# Altium footprint library PCBLIB.PcbLib: 22 footprints (part 1 of 2)
Each footprint in its own frame and in the unit in brackets; x right, y up, seen from the top. Pads: shape width x height; smd on the part's side, far side on the other; paste and mask are expansions set on the pad; w line width, h text height; cw(c..) or ccw(c..) is an arc to the next point about the centre after c.
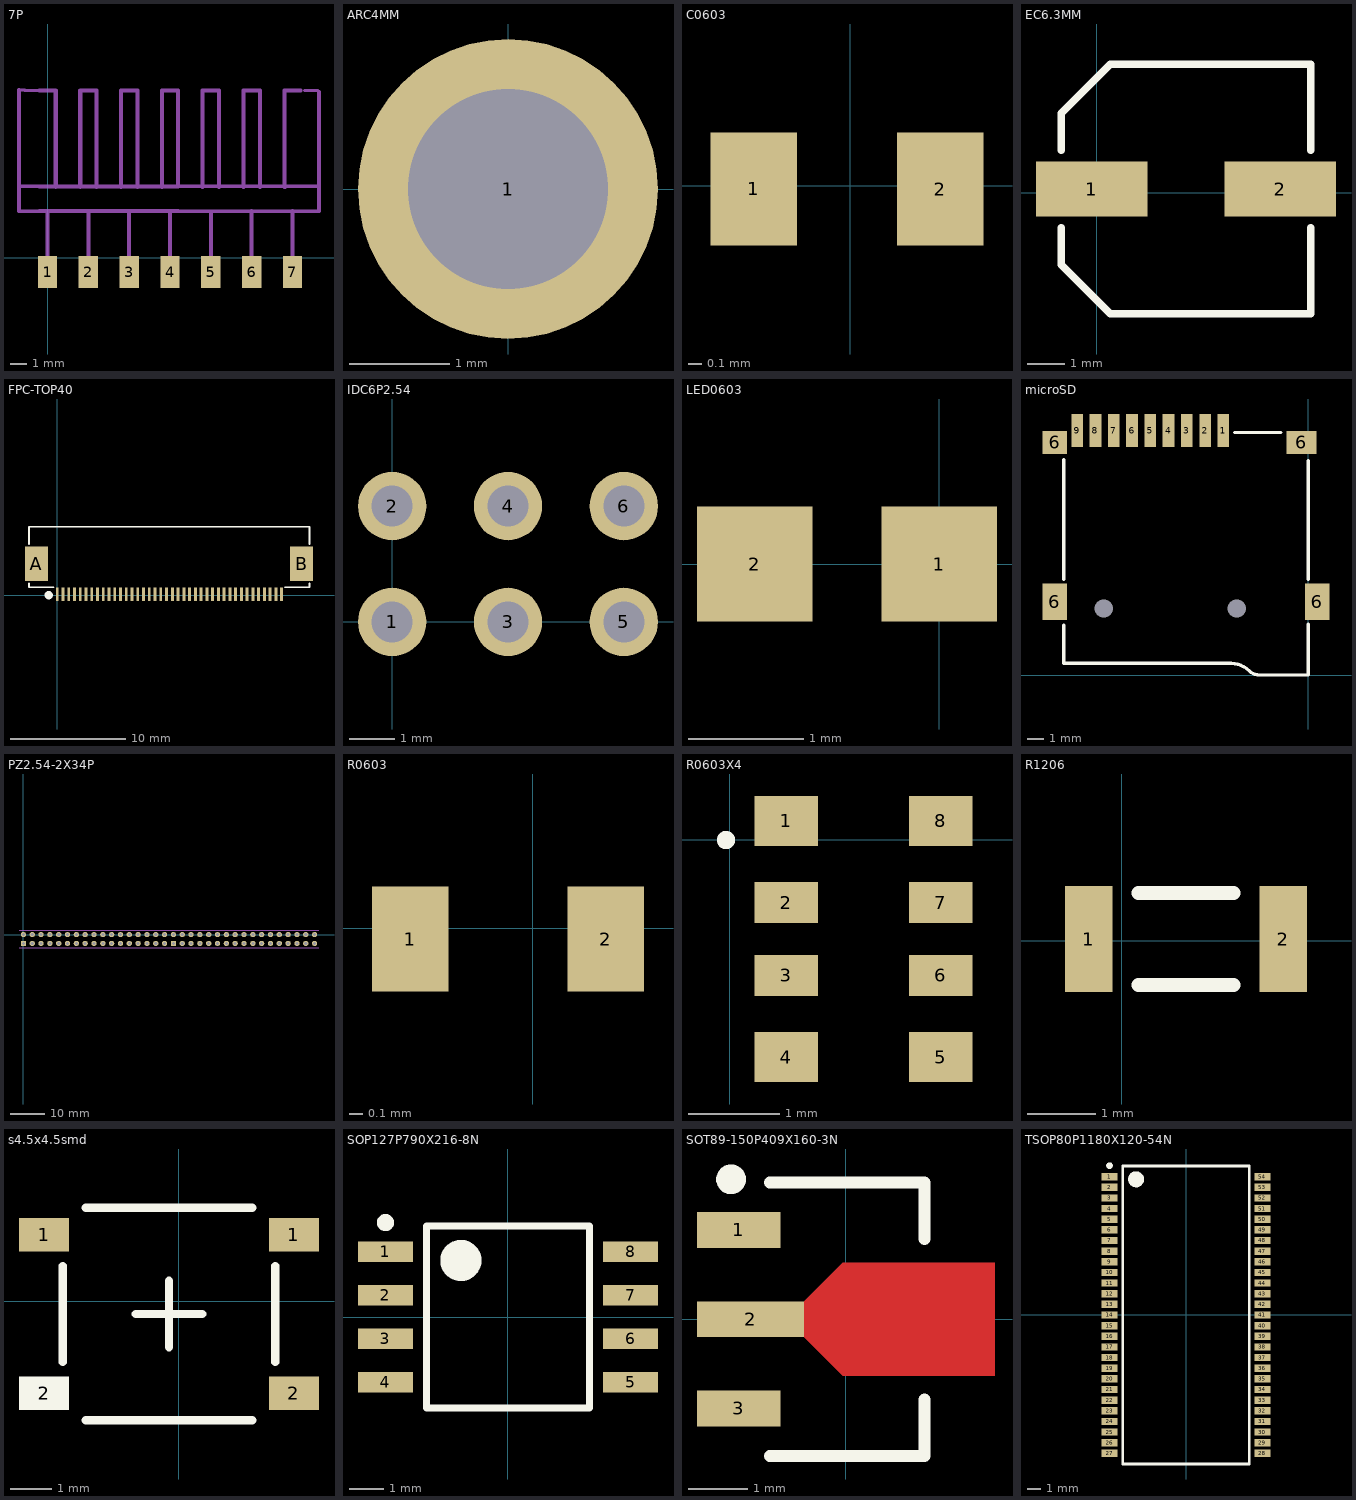
[diagram p0: the footprints below, top view; thin cyan lines are the x and y axes]

## 7P [mm]
pads (7):
  rect 1.2x2 smd: 1(0,-0.889) 2(2.54,-0.889) 3(5.08,-0.889) 4(7.62,-0.889) 5(10.16,-0.889) 6(12.7,-0.889) 7(15.24,-0.889)
Mechanical 1:
  lines w0.102: 8.128,2.9 15.24,2.9 ; 8.128,4.445 14.687,4.445 14.814,4.318 ; 14.986,2.9 15.748,2.9
  lines w0.2: -1.778,2.9 16.891,2.9 ; -1.778,4.445 16.764,4.445 16.891,4.318 ; -1.778,10.445 -1.428,10.445 -1.383,10.4 0,10.4 ; 16.002,10.414 16.795,10.414 16.891,10.318
  lines w0.254: -1.778,2.9 -1.778,4.445 -1.778,10.445 ; -0.508,2.9 8.128,2.9 ; -0.508,4.445 8.128,4.445 8.128,10.4 ; -0.508,10.4 0.508,10.4 0.508,4.4 ; 0,0.148 0,2.794 ; 2.032,4.4 2.032,10.4 ; 2.032,10.414 3.048,10.414 ; 2.54,0 2.54,2.794 ; 3.048,4.4 3.048,10.4 ; 4.572,4.4 4.572,10.4 ; 4.572,10.414 5.588,10.414 ; 5.08,0 5.08,2.9 ; 5.588,4.4 5.588,10.4 ; 7.112,4.4 7.112,10.4 ; 7.112,10.414 8.128,10.414 ; 7.62,0 7.62,2.9 ; 9.652,4.4 9.652,10.4 ; 9.652,10.414 10.668,10.414 ; 10.16,0 10.16,2.794 ; 10.668,4.4 10.668,10.4 ; 12.192,4.4 12.192,10.4 ; 12.192,10.414 13.208,10.414 ; 12.7,0 12.7,2.9 ; 13.208,4.4 13.208,10.4 ; 14.732,4.4 14.732,10.4 ; 14.732,10.414 15.748,10.414 ; 15.24,0 15.24,2.9 ; 16.891,2.9 16.891,4.318 16.891,10.318

## ARC4MM [mm]
pads (1):
  round 3 hole 2: 1(0,0)

## C0603 [mm]
pads (2):
  rect 0.65x0.85 smd: 1(-0.725,-0.025) 2(0.675,-0.025)
3D body: height 0.45, standoff 0, extent -0.826,-0.425 0.774,0.375

## EC6.3MM [mm]
pads (2):
  rect 2.95x1.45 smd: 1(-0.138,0.102) 2(4.862,0.102)
Top Overlay:
  lines w0.2: -0.938,-0.923 -0.938,-1.911 0.35,-3.198 5.662,-3.198 5.662,-0.923 ; -0.938,1.127 -0.938,2.114 0.35,3.402 5.662,3.402 5.662,1.127
3D body: height 5.4, standoff 0, extent -1.238,-3.198 5.962,3.402

## FPC-TOP40 [mm] "长：24.2mm，宽：5.2mm，高：2mm"
pads (42):
  rect 0.25x1.2 smd: 1(0,0.102) 2(0.5,0.102) 3(1,0.102) 4(1.5,0.102) 5(2,0.102) 6(2.5,0.102) 7(3,0.102) 8(3.5,0.102) 9(4,0.102) 10(4.5,0.102) 11(5,0.102) 12(5.5,0.102) 13(6,0.102) 14(6.5,0.102) 15(7,0.102) 16(7.5,0.102) 17(8,0.102) 18(8.5,0.102) 19(9,0.102) 20(9.5,0.102) 21(10,0.102) 22(10.5,0.102) 23(11,0.102) 24(11.5,0.102) 25(12,0.102) 26(12.5,0.102) 27(13,0.102) 28(13.5,0.102) 29(14,0.102) 30(14.5,0.102) 31(15,0.102) 32(15.5,0.102) 33(16,0.102) 34(16.5,0.102) 35(17,0.102) 36(17.5,0.102) 37(18,0.102) 38(18.5,0.102) 39(19,0.102) 40(19.5,0.102)
  rect 2x3 smd: A(-1.818,2.754) B(21.242,2.754)
Top Overlay:
  circle w0.356: c-0.737,0.025 r0.178
  lines w0.127: -2.45,0.731 -2.438,0.719
  lines w0.152: -2.45,0.719 -0.305,0.719 ; -2.45,0.731 -2.45,1.067 ; -2.45,4.445 -2.45,5.969 21.925,5.969 21.925,4.47 ; 19.794,0.711 21.925,0.711 21.925,1.067
3D body: height 2, standoff -0.01, extent -2.312,0.313 21.888,6.313

## IDC6P2.54 [mm]
pads (6):
  round 1.5 hole 0.9: 1(0,0) 2(0,2.54) 3(2.54,0) 4(2.54,2.54) 5(5.08,0) 6(5.08,2.54)

## LED0603 [mm]
pads (2):
  rect 1x1 smd: 1(0,0) 2(-1.6,0)
3D body: height 0.9, standoff 0, extent -1.688,-0.45 0.012,0.45

## microSD [mm] "MicroSD"
pads (15):
  round 0 hole 1.1 unplated: 0(-12.31,4) 0(-4.31,4)
  rect 0.7x2 smd: 1(-5.11,14.714) 2(-6.21,14.714) 3(-7.31,14.714) 4(-8.41,14.714) 5(-9.51,14.714) 6(-10.61,14.714) 7(-11.71,14.714) 8(-12.81,14.714) 9(-13.91,14.714)
  rect 1.5x2.2 smd: 6(-15.26,4.4) 6(0.54,4.4)
  rect 1.5x1.4 smd: 6(-15.26,14)
  rect 1.8x1.4 smd: 6(-0.41,14)
Top Overlay:
  lines w0.2: -14.72,3 -14.72,0.7 -6.22,0.7 -5.734,0.7 -4.633,0.7 cw(c-4.633,-0.823) -3.556,0.254 ccw(c-2.943,0.867) -2.943,0 -2.667,0 -2.5,0 0,0 0,1.814 0,2.691 0,3.072 ; -14.72,5.751 -14.72,6.253 -14.72,8.031 -14.72,12.978 ; -4.439,14.6 -4.066,14.6 -1.653,14.6 ; 0,5.751 0,7.015 0,10.952 0,12.9
3D body: height 1.91, standoff -0.54, extent -15.317,-2.505 0.683,15.245

## PZ2.54-2X34P [mil] "排针，2.54mm间距，2X34P"
pads (68):
  rect 60x60 hole 35: 1(-0.01,-100.01) 35(1699.98,-100.01)
  round 60 hole 35: 2(0,0) 3(99.99,-100.01) 4(100,0) 5(199.99,-100.01) 6(200,0) 7(299.99,-100.01) 8(300,0) 9(399.99,-100.01) 10(400,0) 11(499.99,-100.01) 12(500,0) 13(599.99,-100.01) 14(600,0) 15(699.99,-100.01) 16(700,0) 17(799.99,-100.01) 18(800,0) 19(899.99,-100.01) 20(900,0) 21(999.99,-100.01) 22(1000,0) 23(1099.99,-100.01) 24(1100,0) 25(1199.99,-100.01) 26(1200,0) 27(1299.99,-100.01) 28(1300,0) 29(1399.99,-100.01) 30(1400,0) 31(1499.99,-100.01) 32(1500,0) 33(1599.99,-100.01) 34(1600,0) 36(1699.99,0) 37(1799.98,-100.01) 38(1799.99,0) 39(1899.98,-100.01) 40(1899.99,0) 41(1999.98,-100.01) 42(1999.99,0) 43(2099.98,-100.01) 44(2099.99,0) 45(2199.98,-100.01) 46(2199.99,0) 47(2299.98,-100.01) 48(2299.99,0) 49(2399.98,-100.01) 50(2399.99,0) 51(2499.98,-100.01) 52(2499.99,0) 53(2599.98,-100.01) 54(2599.99,0) 55(2699.98,-100.01) 56(2699.99,0) 57(2799.98,-100.01) 58(2799.99,0) 59(2899.98,-100.01) 60(2899.99,0) 61(2999.98,-100.01) 62(2999.99,0) 63(3099.98,-100.01) 64(3099.99,0) 65(3199.98,-100.01) 66(3199.99,0) 67(3299.98,-100.01) 68(3299.99,0)
Mechanical 1:
  lines w7.87: -50.01,-150.01 1649.99,-150.01 3349.98,-150.01 ; -50,50 1649.99,50 3349.98,50

## R0603 [mm]
pads (2):
  rect 0.55x0.75 smd: 1(-0.878,-0.076) 2(0.522,-0.076)
3D body: height 0.5, standoff 0, extent -0.978,-0.476 0.622,0.324

## R0603X4 [mm]
pads (8):
  rect 0.7x0.55 smd: 1(0.623,0.208) 4(0.623,-2.392) 5(2.323,-2.392) 8(2.323,0.208)
  rect 0.7x0.45 smd: 2(0.623,-0.692) 3(0.623,-1.492) 6(2.323,-1.492) 7(2.323,-0.692)
Top Overlay:
  circle w0.1: c-0.039,-0.004 r0.05
3D body: height 0.53, standoff -0.03, extent 0.673,-2.692 2.273,0.508

## R1206 [mm]
pads (2):
  rect 0.7x1.55 smd: 1(-0.485,0.025) 2(2.365,0.025)
Top Overlay:
  lines w0.2: 0.24,-0.65 1.64,-0.65 ; 0.24,0.7 1.64,0.7
3D body: height 0.85, standoff 0, extent -0.66,-0.775 2.54,0.825

## s4.5x4.5smd [mm]
pads (4):
  rect 1.2x0.8 smd: 1(-3.229,1.595) 1(2.771,1.595) 2(2.771,-2.205)
  rect 1.2x0.8 on Top Overlay: 2(-3.229,-2.205)
Top Overlay:
  lines w0.2: -2.779,-1.455 -2.779,0.845 ; -2.229,-2.855 1.771,-2.855 ; -2.229,2.245 1.771,2.245 ; -1.029,-0.305 -0.229,-0.305 ; -0.229,-1.105 -0.229,-0.305 ; -0.229,0.495 -0.229,-0.305 ; 0.571,-0.305 -0.229,-0.305 ; 2.321,-1.455 2.321,0.845
3D body: height 1.5, standoff 0, extent -3.429,-2.955 2.974,2.345

## SOP127P790X216-8N [mm] "SOP, 8-Leads, Body 5.28x5.28mm, Pitch 1.27mm, IPC Medium Density"
height 2.16
pads (8):
  rect 1.6x0.6 smd: 1(-3.575,1.905) 2(-3.575,0.635) 3(-3.575,-0.635) 4(-3.575,-1.905) 5(3.575,-1.905) 6(3.575,-0.635) 7(3.575,0.635) 8(3.575,1.905)
Top Overlay:
  circle w0.25: c-3.575,2.755 r0.125
  circle w0.6: c-1.375,1.65 r0.3
  lines w0.2: -2.375,-2.65 -2.375,2.65 2.375,2.65 2.375,-2.65 -2.375,-2.65
3D body: height 2.16, standoff 0, extent -3.95,-2.65 3.95,2.65

## SOT89-150P409X160-3N [mm] "SOT89, 3-Leads, Body 4.50x2.50mm, Pitch 1.50mm, Lead Span 4.1mm, IPC Medium Density"
height 1.6
pads (3):
  rect 1.4x0.6 smd: 1(-1.8,1.5) 3(-1.8,-1.5)
  rect 1.8x0.6 smd: 2(-1.6,0)
Top Layer:
  region: -0.7,0.3 -0.05,0.95 2.5,0.95 2.5,-0.95 -0.05,-0.95 -0.7,-0.3
Top Overlay:
  circle w0.25: c-1.927,2.35 r0.125
  lines w0.2: -1.277,-2.3 1.323,-2.3 1.322,-1.35 ; -1.278,2.3 1.322,2.3 1.323,1.35
Top Paste:
  rectangle: 0,-1.016 2.54,1.016
Top Solder:
  rectangle: -0.127,-0.889 2.54,1.016
3D body: height 1.5, standoff 0, extent -2.3,-2.25 1.802,2.25

## TSOP80P1180X120-54N [mm] "TSOP, 54-Leads, Body 22.22x10.16mm, Pitch 0.80mm, IPC Medium Density"
height 1.2
pads (54):
  rect 1.2x0.55 smd: 1(-5.75,10.4) 2(-5.75,9.6) 3(-5.75,8.8) 4(-5.75,8) 5(-5.75,7.2) 6(-5.75,6.4) 7(-5.75,5.6) 8(-5.75,4.8) 9(-5.75,4) 10(-5.75,3.2) 11(-5.75,2.4) 12(-5.75,1.6) 13(-5.75,0.8) 14(-5.75,0) 15(-5.75,-0.8) 16(-5.75,-1.6) 17(-5.75,-2.4) 18(-5.75,-3.2) 19(-5.75,-4) 20(-5.75,-4.8) 21(-5.75,-5.6) 22(-5.75,-6.4) 23(-5.75,-7.2) 24(-5.75,-8) 25(-5.75,-8.8) 26(-5.75,-9.6) 27(-5.75,-10.4) 28(5.75,-10.4) 29(5.75,-9.6) 30(5.75,-8.8) 31(5.75,-8) 32(5.75,-7.2) 33(5.75,-6.4) 34(5.75,-5.6) 35(5.75,-4.8) 36(5.75,-4) 37(5.75,-3.2) 38(5.75,-2.4) 39(5.75,-1.6) 40(5.75,-0.8) 41(5.75,0) 42(5.75,0.8) 43(5.75,1.6) 44(5.75,2.4) 45(5.75,3.2) 46(5.75,4) 47(5.75,4.8) 48(5.75,5.6) 49(5.75,6.4) 50(5.75,7.2) 51(5.75,8) 52(5.75,8.8) 53(5.75,9.6) 54(5.75,10.4)
Top Overlay:
  circle w0.25: c-5.75,11.225 r0.125
  circle w0.6: c-3.75,10.2 r0.3
  lines w0.2: -4.75,-11.2 -4.75,11.2 4.75,11.2 4.75,-11.2 -4.75,-11.2
3D body: height 1.2, standoff 0, extent -5.88,-11.2 5.88,11.2